# EAGLE library part CON_OVERO (library pixhawk2-import)
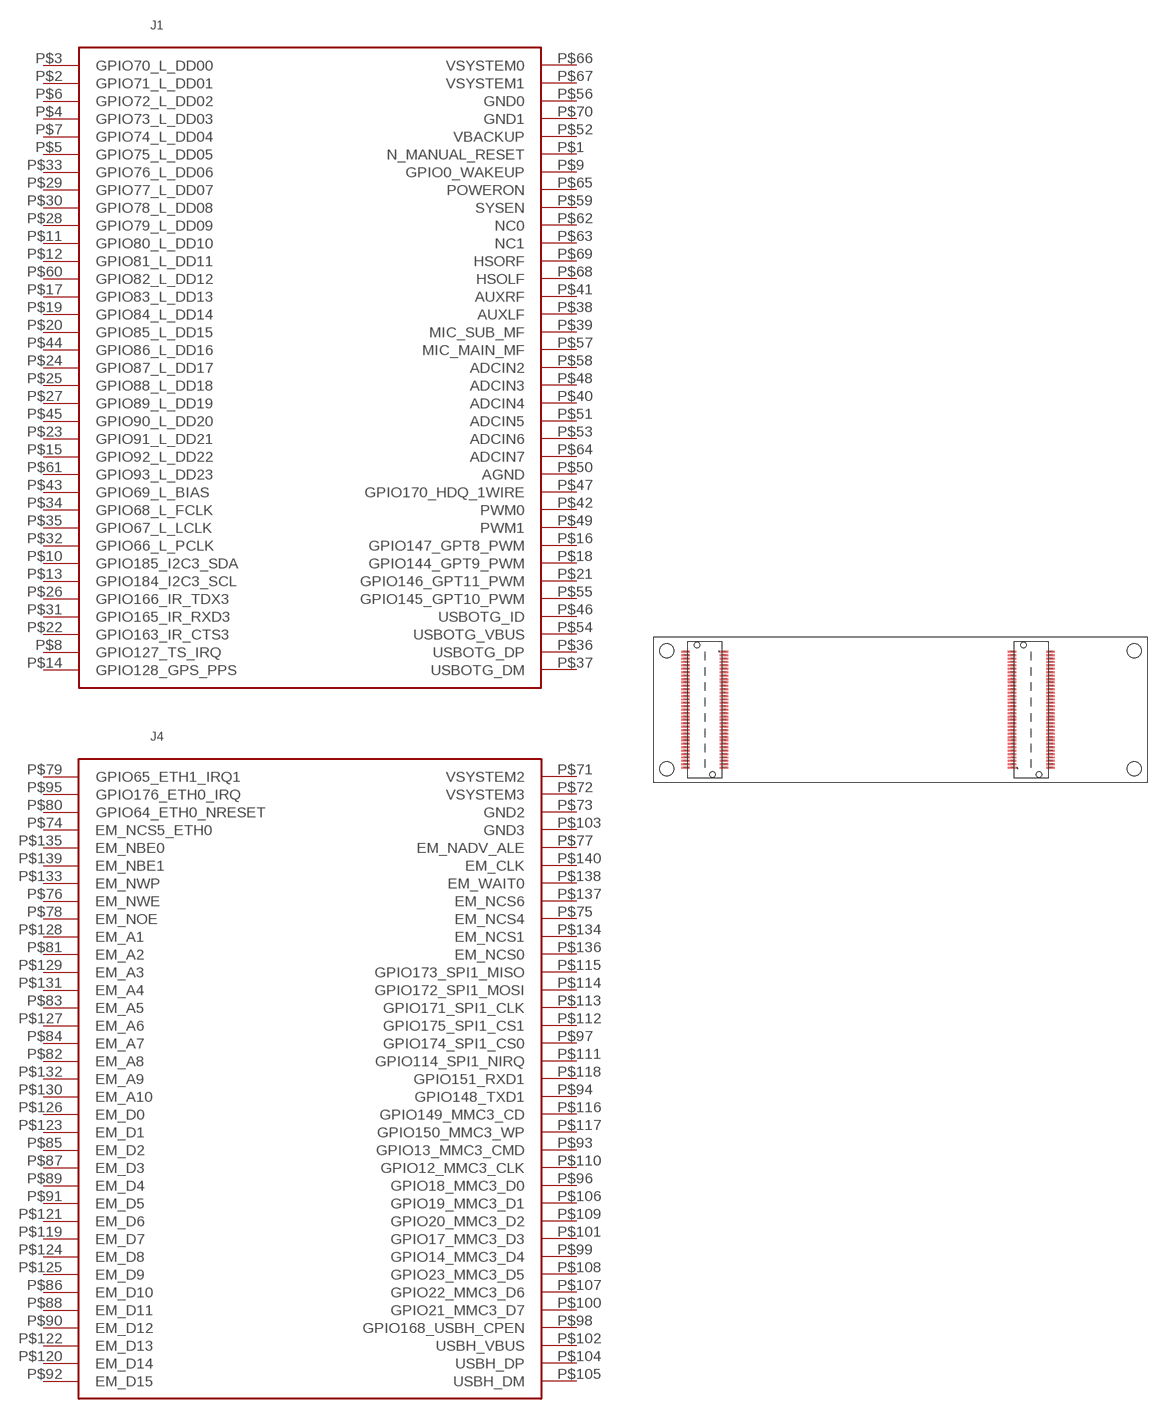
[diagram p21: symbol with the pads of CON_OVERO; footprint CON_OVERO]

Designator prefix -

## CON_OVERO  [CON_OVERO]
P$1  N_MANUAL_RESET
P$2  GPIO71_L_DD01
P$3  GPIO70_L_DD00
P$4  GPIO73_L_DD03
P$5  GPIO75_L_DD05
P$6  GPIO72_L_DD02
P$7  GPIO74_L_DD04
P$8  GPIO127_TS_IRQ
P$9  GPIO0_WAKEUP
P$10  GPIO185_I2C3_SDA
P$11  GPIO80_L_DD10
P$12  GPIO81_L_DD11
P$13  GPIO184_I2C3_SCL
P$14  GPIO128_GPS_PPS
P$15  GPIO92_L_DD22
P$16  GPIO147_GPT8_PWM
P$17  GPIO83_L_DD13
P$18  GPIO144_GPT9_PWM
P$19  GPIO84_L_DD14
P$20  GPIO85_L_DD15
P$21  GPIO146_GPT11_PWM
P$22  GPIO163_IR_CTS3
P$23  GPIO91_L_DD21
P$24  GPIO87_L_DD17
P$25  GPIO88_L_DD18
P$26  GPIO166_IR_TDX3
P$27  GPIO89_L_DD19
P$28  GPIO79_L_DD09
P$29  GPIO77_L_DD07
P$30  GPIO78_L_DD08
P$31  GPIO165_IR_RXD3
P$32  GPIO66_L_PCLK
P$33  GPIO76_L_DD06
P$34  GPIO68_L_FCLK
P$35  GPIO67_L_LCLK
P$36  USBOTG_DP
P$37  USBOTG_DM
P$38  AUXLF
P$39  MIC_SUB_MF
P$40  ADCIN4
P$41  AUXRF
P$42  PWM0
P$43  GPIO69_L_BIAS
P$44  GPIO86_L_DD16
P$45  GPIO90_L_DD20
P$46  USBOTG_ID
P$47  GPIO170_HDQ_1WIRE
P$48  ADCIN3
P$49  PWM1
P$50  AGND
P$51  ADCIN5
P$52  VBACKUP
P$53  ADCIN6
P$54  USBOTG_VBUS
P$55  GPIO145_GPT10_PWM
P$56  GND0
P$57  MIC_MAIN_MF
P$58  ADCIN2
P$59  SYSEN
P$60  GPIO82_L_DD12
P$61  GPIO93_L_DD23
P$62  NC0
P$63  NC1
P$64  ADCIN7
P$65  POWERON
P$66  VSYSTEM0
P$67  VSYSTEM1
P$68  HSOLF
P$69  HSORF
P$70  GND1
P$71  VSYSTEM2
P$72  VSYSTEM3
P$73  GND2
P$74  EM_NCS5_ETH0
P$75  EM_NCS4
P$76  EM_NWE
P$77  EM_NADV_ALE
P$78  EM_NOE
P$79  GPIO65_ETH1_IRQ1
P$80  GPIO64_ETH0_NRESET
P$81  EM_A2
P$82  EM_A8
P$83  EM_A5
P$84  EM_A7
P$85  EM_D2
P$86  EM_D10
P$87  EM_D3
P$88  EM_D11
P$89  EM_D4
P$90  EM_D12
P$91  EM_D5
P$92  EM_D15
P$93  GPIO13_MMC3_CMD
P$94  GPIO148_TXD1
P$95  GPIO176_ETH0_IRQ
P$96  GPIO18_MMC3_D0
P$97  GPIO174_SPI1_CS0
P$98  GPIO168_USBH_CPEN
P$99  GPIO14_MMC3_D4
P$100  GPIO21_MMC3_D7
P$101  GPIO17_MMC3_D3
P$102  USBH_VBUS
P$103  GND3
P$104  USBH_DP
P$105  USBH_DM
P$106  GPIO19_MMC3_D1
P$107  GPIO22_MMC3_D6
P$108  GPIO23_MMC3_D5
P$109  GPIO20_MMC3_D2
P$110  GPIO12_MMC3_CLK
P$111  GPIO114_SPI1_NIRQ
P$112  GPIO175_SPI1_CS1
P$113  GPIO171_SPI1_CLK
P$114  GPIO172_SPI1_MOSI
P$115  GPIO173_SPI1_MISO
P$116  GPIO149_MMC3_CD
P$117  GPIO150_MMC3_WP
P$118  GPIO151_RXD1
P$119  EM_D7
P$120  EM_D14
P$121  EM_D6
P$122  EM_D13
P$123  EM_D1
P$124  EM_D8
P$125  EM_D9
P$126  EM_D0
P$127  EM_A6
P$128  EM_A1
P$129  EM_A3
P$130  EM_A10
P$131  EM_A4
P$132  EM_A9
P$133  EM_NWP
P$134  EM_NCS1
P$135  EM_NBE0
P$136  EM_NCS0
P$137  EM_NCS6
P$138  EM_WAIT0
P$139  EM_NBE1
P$140  EM_CLK

## Footprint CON_OVERO (pad centres in mm)
smd 1 x 0.23: P$1 40.5,0.1; P$2 40.5,0.5; P$3 40.5,0.9; P$4 40.5,1.3; P$5 40.5,1.7; P$6 40.5,2.1; P$7 40.5,2.5; P$8 40.5,2.9; P$9 40.5,3.3; P$10 40.5,3.7; P$11 40.5,4.1; P$12 40.5,4.5; P$13 40.5,4.9; P$14 40.5,5.3; P$15 40.5,5.7; P$16 40.5,6.1; P$17 40.5,6.5; P$18 40.5,6.9; P$19 40.5,7.3; P$20 40.5,7.7; P$21 40.5,8.1; P$22 40.5,8.5; P$23 40.5,8.9; P$24 40.5,9.3; P$25 40.5,9.7; P$26 40.5,10.1; P$27 40.5,10.5; P$28 40.5,10.9; P$29 40.5,11.3; P$30 40.5,11.7; P$31 40.5,12.1; P$32 40.5,12.5; P$33 40.5,12.9; P$34 40.5,13.3; P$35 40.5,13.7; P$36 45,13.7; P$37 45,13.3; P$38 45,12.9; P$39 45,12.5; P$40 45,12.1; P$41 45,11.7; P$42 45,11.3; P$43 45,10.9; P$44 45,10.5; P$45 45,10.1; P$46 45,9.7; P$47 45,9.3; P$48 45,8.9; P$49 45,8.5; P$50 45,8.1; P$51 45,7.7; P$52 45,7.3; P$53 45,6.9; P$54 45,6.5; P$55 45,6.1; P$56 45,5.7; P$57 45,5.3; P$58 45,4.9; P$59 45,4.5; P$60 45,4.1; P$61 45,3.7; P$62 45,3.3; P$63 45,2.9; P$64 45,2.5; P$65 45,2.1; P$66 45,1.7; P$67 45,1.3; P$68 45,0.9; P$69 45,0.5; P$70 45,0.1; P$71 6.7,13.7; P$72 6.7,13.3; P$73 6.7,12.9; P$74 6.7,12.5; P$75 6.7,12.1; P$76 6.7,11.7; P$77 6.7,11.3; P$78 6.7,10.9; P$79 6.7,10.5; P$80 6.7,10.1; P$81 6.7,9.7; P$82 6.7,9.3; P$83 6.7,8.9; P$84 6.7,8.5; P$85 6.7,8.1; P$86 6.7,7.7; P$87 6.7,7.3; P$88 6.7,6.9; P$89 6.7,6.5; P$90 6.7,6.1; P$91 6.7,5.7; P$92 6.7,5.3; P$93 6.7,4.9; P$94 6.7,4.5; P$95 6.7,4.1; P$96 6.7,3.7; P$97 6.7,3.3; P$98 6.7,2.9; P$99 6.7,2.5; P$100 6.7,2.1; P$101 6.7,1.7; P$102 6.7,1.3; P$103 6.7,0.9; P$104 6.7,0.5; P$105 6.7,0.1; P$106 2.2,0.1; P$107 2.2,0.5; P$108 2.2,0.9; P$109 2.2,1.3; P$110 2.2,1.7; P$111 2.2,2.1; P$112 2.2,2.5; P$113 2.2,2.9; P$114 2.2,3.3; P$115 2.2,3.7; P$116 2.2,4.1; P$117 2.2,4.5; P$118 2.2,4.9; P$119 2.2,5.3; P$120 2.2,5.7; P$121 2.2,6.1; P$122 2.2,6.5; P$123 2.2,6.9; P$124 2.2,7.3; P$125 2.2,7.7; P$126 2.2,8.1; P$127 2.2,8.5; P$128 2.2,8.9; P$129 2.2,9.3; P$130 2.2,9.7; P$131 2.2,10.1; P$132 2.2,10.5; P$133 2.2,10.9; P$134 2.2,11.3; P$135 2.2,11.7; P$136 2.2,12.1; P$137 2.2,12.5; P$138 2.2,12.9; P$139 2.2,13.3; P$140 2.2,13.7
hole 1.65 at 0,0
hole 1.65 at 0,13.8
hole 1.65 at 54.8,0
hole 1.65 at 54.8,13.8
hole 0.65 at 41.85,14.5
hole 0.65 at 43.65,-0.7
hole 0.65 at 5.35,-0.7
hole 0.65 at 3.55,14.5